# EAGLE library part WE-LAN_7490140123 (library Wurth_Signal & Communications_WE-LAN)
WE-LAN LAN Transformer 10/100 Base-T Characteristics Power over Ethernet up to 150 Watts and speeds up to 1 Gbit/s Available in SMD Compliant with standards: IEEE 802.3u, IEEE 802.3ab, IEEE 802.3af, IEEE 802.3at and upcoming IEEE 802.3bt Applications Suitable for industrial temperatures from –40 °C up to +125 °C Compatible to Industrial Ethernet systems like EtherCAT or Profinet Compliant with most IC’s for Ethernet applications such as Microchip, Texas Instruments, Broadcom, Linear Technology Hubs, Routers, Switches, IP cameras, IoT applications <https://www.we-online.com/catalog/media/o14800v209%20WE-LAN%20-%20Kopie.jpg> Details see: https://www.we-online.com/catalog/en/WE-LAN/ Created by Ella Wu, 2020-07-08 2020 (C) Würth Elektronik
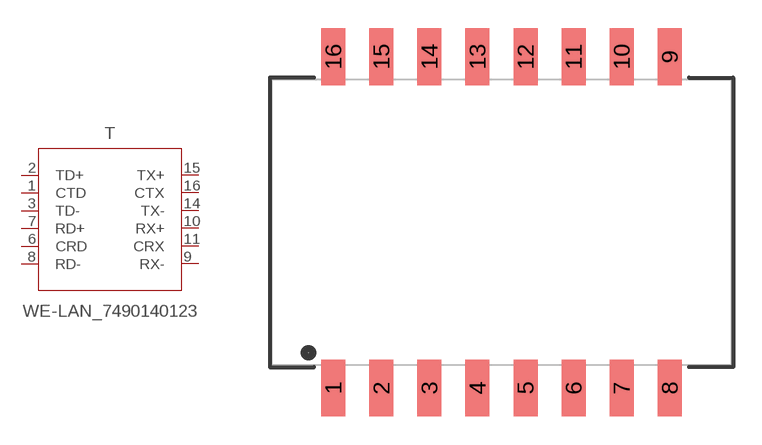
[diagram p1: symbol with the pads of WE-LAN_7490140123; footprint WE-LAN_7490140123]

Designator prefix T

## WE-LAN_7490140123 (DATA-RATE: 10/100 Base-T; DATASHEET-URL: https://www.we-online.com/catalog/datasheet/7490140123.pdf; HPLE: No; L: 350uH; MOUNT: SMT; PART-NUMBER: 7490140123; POE: non-PoE; VALUE: 7490140123; VT: 1500 V (RMS))  [WE-LAN_7490140123]
1  CTD  pas
2  TD+  pas
3  TD-  pas
6  CRD  pas
7  RD+  pas
8  RD-  pas
9  RX-  pas
10  RX+  pas
11  CRX  pas
14  TX-  pas
15  TX+  pas
16  CTX  pas

## Footprint WE-LAN_7490140123 (pad centres in mm)
WE-LAN 100BT 1 Port SMT OH Transformer,16Pins
smd 1.27 x 3: 1 -8.89,-8.75; 2 -6.35,-8.75; 3 -3.81,-8.75; 4 -1.27,-8.75; 5 1.27,-8.75; 6 3.81,-8.75; 7 6.35,-8.75; 8 8.89,-8.75; 9 8.89,8.75; 10 6.35,8.75; 11 3.81,8.75; 12 1.27,8.75; 13 -1.27,8.75; 14 -3.81,8.75; 15 -6.35,8.75; 16 -8.89,8.75